# EAGLE library part PSRAMADAPTER (library mainboard-v4aW-jlcpcb)
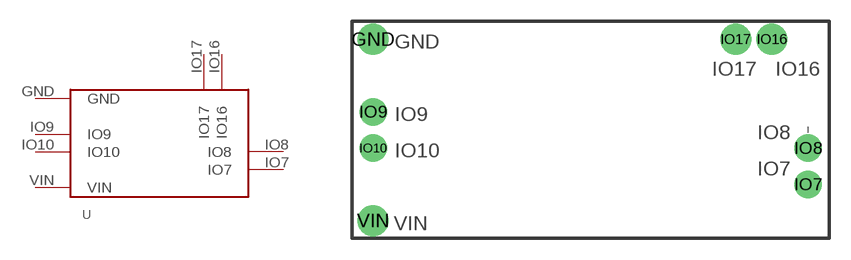
[diagram p6: symbol with the pads of PSRAMADAPTER; footprint PSRAMADAPTER]

Designator prefix -

## PSRAMADAPTER  [PSRAMADAPTER]
GND  GND  pwr
IO7  IO7
IO8  IO8
IO9  IO9
IO10  IO10
IO16  IO16
IO17  IO17
VIN  VIN  pwr

## Footprint PSRAMADAPTER (pad centres in mm)
drill 0.8 pad 2.184: GND -15.24,6.35; IO16 12.7,6.35; IO17 10.16,6.35; VIN -15.24,-6.35
drill 0.8 pad 1.93: IO7 15.24,-3.81; IO8 15.24,-1.27; IO9 -15.24,1.27; IO10 -15.24,-1.27